# EAGLE library part MA08-1 (library custom)
PIN HEADER
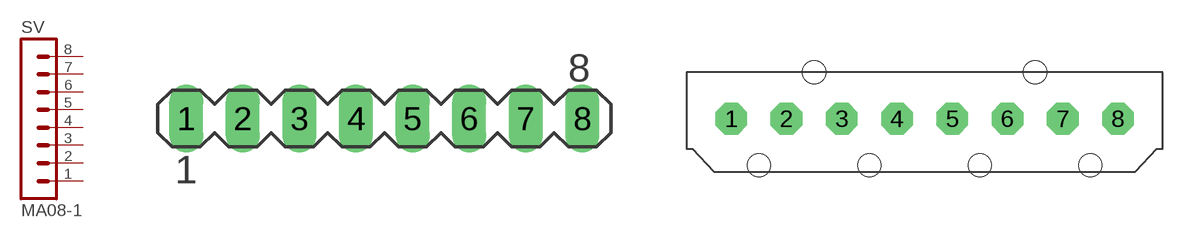
[diagram p2: symbol with the pads of MA08-1; footprints MA08-1, IDC381-8]

Designator prefix SV

## MA08-1 (OC_FARNELL: unknown; OC_NEWARK: unknown)  [MA08-1]
1  1  pas
2  2  pas
3  3  pas
4  4  pas
5  5  pas
6  6  pas
7  7  pas
8  8  pas

## MA08-1-IDC  [IDC381-8]
Pads as for MA08-1

## Footprint MA08-1 (pad centres in mm)
PIN HEADER
drill 1.016 long: 1 -8.89,0; 2 -6.35,0; 3 -3.81,0; 4 -1.27,0; 5 1.27,0; 6 3.81,0; 7 6.35,0; 8 8.89,0

## Footprint IDC381-8 (pad centres in mm)
drill 1.4 pad 2.184 octagon: 1 -13.335,0; 2 -9.525,0; 3 -5.715,0; 4 -1.905,0; 5 1.905,0; 6 5.715,0; 7 9.525,0; 8 13.335,0
hole 1.6 at -11.43,-3.2
hole 1.6 at -3.81,-3.2
hole 1.6 at 3.81,-3.2
hole 1.6 at 11.43,-3.2
hole 1.6 at -7.62,3.2
hole 1.6 at 7.62,3.2